# Altium schematic symbol library ERJ-2RKF33R0X.Schlib: 1 symbol
Pins are listed as number, name and electrical type; pins without a type are passive.

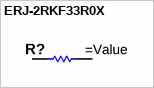
[diagram p0: symbol ERJ-2RKF33R0X]

## ERJ-2RKF33R0X
designator R?
RES 33 OHM 1/10W 1% 0402 SMD
pins: 1, 2